# Altium footprint library PCB1.PcbLib: 15 footprints
Each footprint in its own frame and in the unit in brackets; x right, y up, seen from the top. Pads: shape width x height; smd on the part's side, far side on the other; paste and mask are expansions set on the pad; w line width, h text height; cw(c..) or ccw(c..) is an arc to the next point about the centre after c.
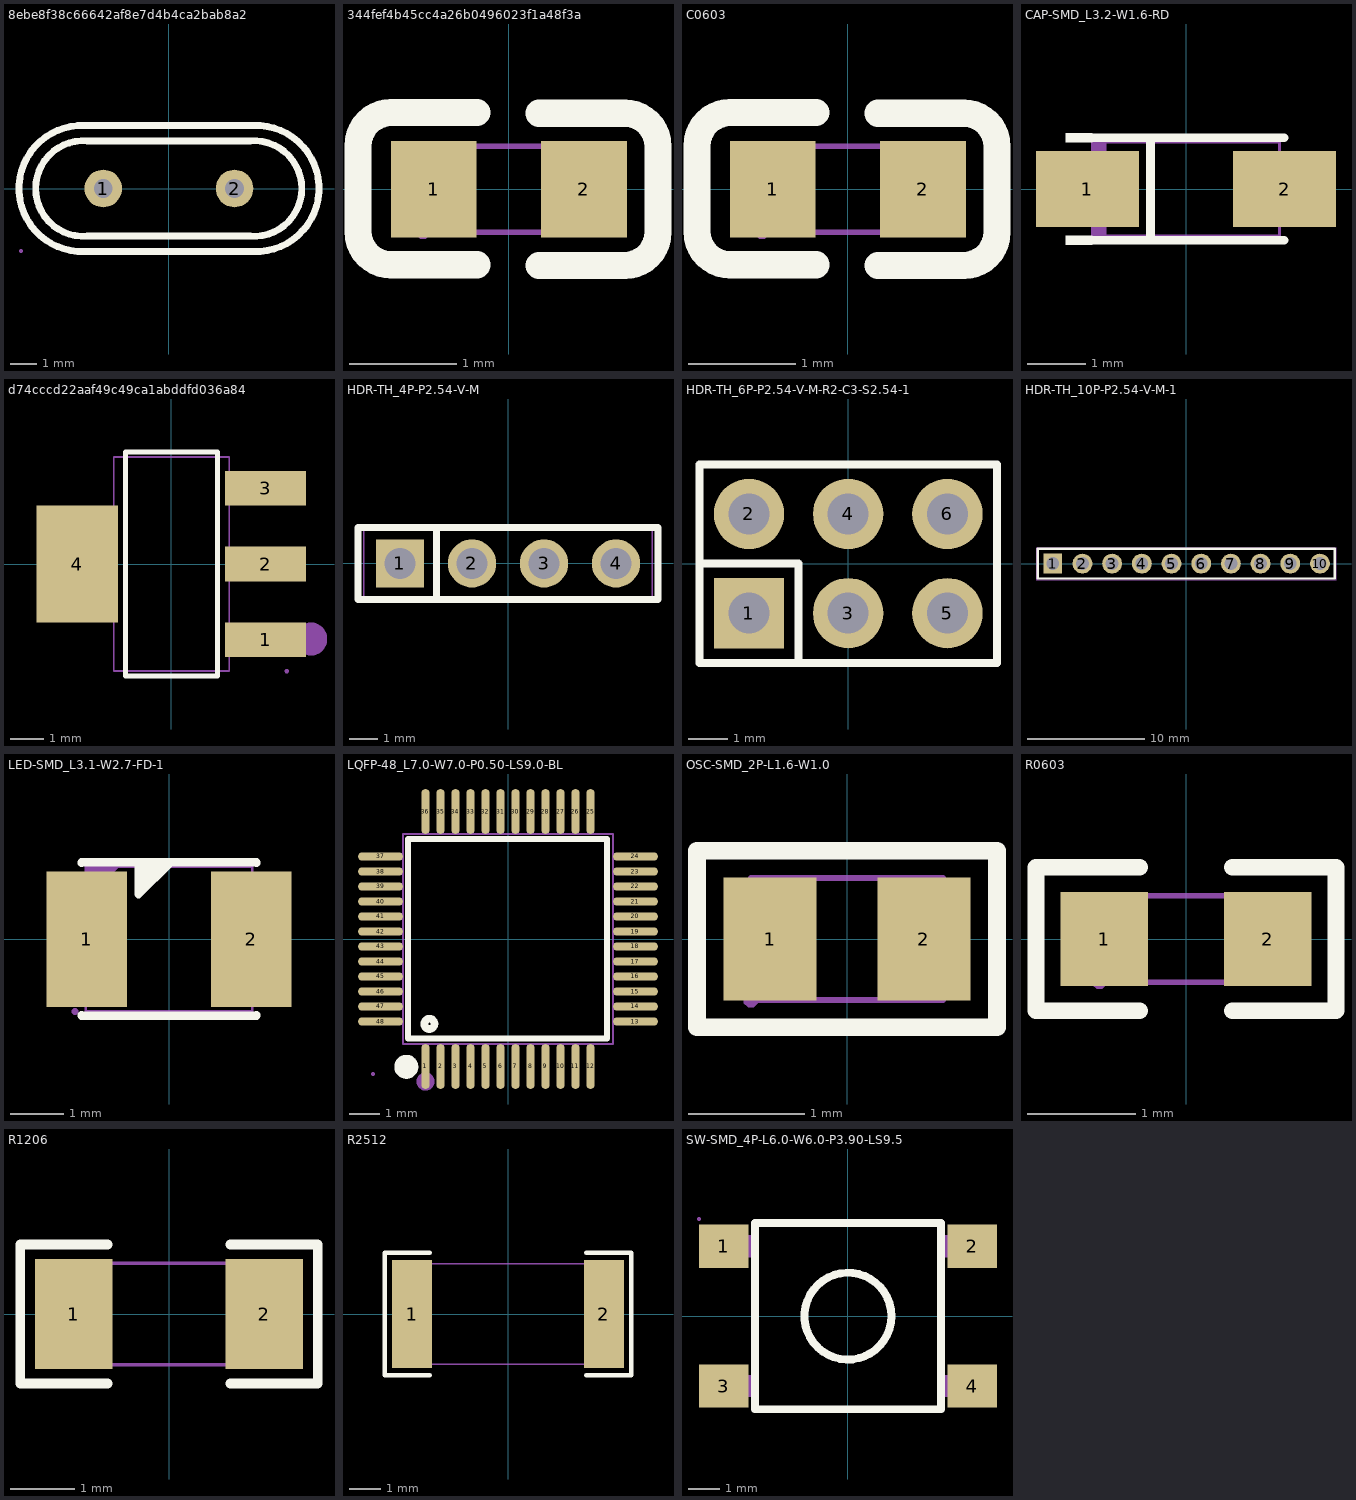
[diagram p0: the footprints below, top view; thin cyan lines are the x and y axes]

## 8ebe8f38c66642af8e7d4b4ca2bab8a2 [mm]
pads (2):
  round 1.4 hole 0.7 mask+0.051: 1(-2.45,0) 2(2.45,0)
Top Overlay:
  lines w0.254: -3.149,-2.351 cw(c-3.241,0) -3.149,2.35 3.15,2.35 cw(c3.248,0.001) 3.15,-2.35 -3.149,-2.35 ; -3.048,-1.779 cw(c-3.188,0) -3.048,1.778 3.048,1.778 cw(c3.176,0) 3.048,-1.779 ; -3.048,-1.778 3.048,-1.778
Mechanical 15:
  region: -5.52,-2.27 -5.545,-2.27 -5.58,-2.305 -5.58,-2.355 -5.545,-2.39 -5.52,-2.39 -5.495,-2.39 -5.46,-2.355 -5.46,-2.305 -5.495,-2.27 -5.52,-2.27
  region: -2.45,0.225 -2.495,0.225 -2.577,0.191 -2.641,0.127 -2.675,0.045 -2.675,-0.045 -2.641,-0.127 -2.577,-0.191 -2.495,-0.225 -2.45,-0.225 -2.405,-0.225 -2.322,-0.191 -2.259,-0.127 -2.225,-0.045 -2.225,0.045 -2.259,0.127 -2.322,0.191 -2.405,0.225 -2.45,0.225
  region: 2.45,0.225 2.405,0.225 2.322,0.191 2.259,0.127 2.225,0.045 2.225,-0.045 2.259,-0.127 2.322,-0.191 2.405,-0.225 2.45,-0.225 2.495,-0.225 2.577,-0.191 2.641,-0.127 2.675,-0.045 2.675,0.045 2.641,0.127 2.577,0.191 2.495,0.225 2.45,0.225
  lines w0.051: -5.52,0 cw(c-3.19,0) -3.19,2.33 3.18,2.33 3.2,2.33 cw(c3.2,0) 5.53,0 cw(c3.2,0) 3.2,-2.33 -3.12,-2.33 -3.19,-2.33 cw(c-3.19,0) -5.52,0

## 344fef4b45cc4a26b0496023f1a48f3a [mm]
pads (2):
  rect 0.8x0.9 smd mask+0.051: 1(-0.7,0) 2(0.7,0)
Top Overlay:
  lines w0.254: -0.296,-0.704 -1.096,-0.704 cw(c-1.096,-0.394) -1.406,-0.394 -1.405,0.406 cw(c-1.096,0.406) -1.096,0.715 -0.296,0.715 ; 0.28,-0.71 1.08,-0.71 ccw(c1.08,-0.4) 1.39,-0.4 1.39,0.4 ccw(c1.08,0.4) 1.08,0.71 0.28,0.71
Mechanical 15:
  region: -0.86,-0.4 -0.86,-0.425 -0.825,-0.46 -0.775,-0.46 -0.74,-0.425 -0.74,-0.4 -0.74,-0.375 -0.775,-0.34 -0.825,-0.34 -0.86,-0.375 -0.86,-0.4
  region: -0.8,-0.4 -0.8,0.4 -0.5,0.4 -0.5,-0.4
  region: 0.8,-0.4 0.8,0.4 0.5,0.4 0.5,-0.4
  lines w0.051: -0.8,-0.4 -0.8,0.4 0.8,0.4 0.8,-0.4 -0.8,-0.4

## C0603 [mm]
pads (2):
  rect 0.8x0.9 smd mask+0.051: 1(-0.7,0) 2(0.7,0)
Top Overlay:
  lines w0.254: -0.296,-0.704 -1.096,-0.704 cw(c-1.096,-0.394) -1.406,-0.394 -1.405,0.406 cw(c-1.096,0.406) -1.096,0.715 -0.296,0.715 ; 0.28,-0.71 1.08,-0.71 ccw(c1.08,-0.4) 1.39,-0.4 1.39,0.4 ccw(c1.08,0.4) 1.08,0.71 0.28,0.71
Mechanical 15:
  region: -0.74,-0.4 -0.74,-0.375 -0.775,-0.34 -0.825,-0.34 -0.86,-0.375 -0.86,-0.4 -0.86,-0.425 -0.825,-0.46 -0.775,-0.46 -0.74,-0.425 -0.74,-0.4
  region: -0.8,-0.4 -0.8,0.4 -0.5,0.4 -0.5,-0.4
  region: 0.8,-0.4 0.8,0.4 0.5,0.4 0.5,-0.4
  lines w0.051: -0.8,-0.4 -0.8,0.4 0.8,0.4 0.8,-0.4 -0.8,-0.4

## CAP-SMD_L3.2-W1.6-RD [mm]
pads (2):
  rect 1.758x1.296 smd mask+0.051: 1(-1.686,0) 2(1.686,0)
Top Overlay:
  region: -1.6,-0.952 -1.6,-0.8 -2.057,-0.8 -2.057,-0.952
  region: -1.6,0.952 -1.6,0.8 -2.057,0.8 -2.057,0.952
  lines w0.152: -1.676,-0.876 1.676,-0.876 ; -1.676,0.876 1.676,0.876 ; -0.604,-0.876 -0.604,0.876
Mechanical 6:
  region: 1.48,0.06 1.48,-0.06 1,-0.06 1,0.06
  region: -1.48,0.06 -1.48,-0.06 -1,-0.06 -1,0.06
  region: -1.3,0.4 -1.3,-0.4 -1.18,-0.4 -1.18,0.4
  region: -1.6,0.8 -1.6,0.4 -1.36,0.4 -1.36,0.8
  region: -1.6,-0.8 -1.6,-0.4 -1.36,-0.4 -1.36,-0.8
Mechanical 15:
  region: -1.651,-0.949 -1.626,-0.949 -1.591,-0.914 -1.591,-0.864 -1.626,-0.829 -1.651,-0.829 -1.676,-0.829 -1.711,-0.864 -1.711,-0.914 -1.676,-0.949 -1.651,-0.949
  region: 1.83,0.6 1.83,-0.6 0.98,-0.6 0.98,0.6
  region: -1.83,0.6 -1.83,-0.6 -0.98,-0.6 -0.98,0.6
  lines w0.051: -1.6,-0.8 1.6,-0.8 1.6,0.8 -1.6,0.8 -1.6,-0.8

## d74cccd22aaf49c49ca1abddfd036a84 [mm]
pads (4):
  rect 2.465x1.05 smd mask+0.051: 1(2.857,-2.3) 2(2.857,0) 3(2.857,2.3)
  rect 2.465x3.54 smd mask+0.051: 4(-2.857,0)
Top Overlay:
  lines w0.152: -1.396,-3.401 1.396,-3.401 1.396,3.401 -1.396,3.401 -1.396,-3.401
Mechanical 6:
  circle w0.5: c4.229,-2.277 r0.25
Mechanical 15:
  region: -3.5,-1.5 -3.5,1.5 -2.2,1.5 -2.2,-1.5
  region: -2.21,-1.5 -2.21,1.5 -1.74,1.5 -1.74,-1.5
  region: 2.85,-2.65 2.85,-1.95 3.5,-1.95 3.5,-2.65
  region: 1.74,-2.65 1.74,-1.95 2.86,-1.95 2.86,-2.65
  region: 2.85,-0.35 2.85,0.35 3.5,0.35 3.5,-0.35
  region: 1.74,-0.35 1.74,0.35 2.86,0.35 2.86,-0.35
  region: 2.85,1.95 2.85,2.65 3.5,2.65 3.5,1.95
  region: 1.74,1.95 1.74,2.65 2.86,2.65 2.86,1.95
  region: 3.5,-3.19 3.475,-3.19 3.44,-3.225 3.44,-3.275 3.475,-3.31 3.5,-3.31 3.525,-3.31 3.56,-3.275 3.56,-3.225 3.525,-3.19 3.5,-3.19
  lines w0.051: -1.75,-3.25 -1.75,3.25 1.75,3.25 1.75,-3.25 -1.75,-3.25

## HDR-TH_4P-P2.54-V-M [mm]
pads (4):
  rect 1.699x1.699 hole 1.1 mask+0.051: 1(-3.81,0)
  round 1.699 hole 1.1 mask+0.051: 2(-1.27,0) 3(1.27,0) 4(3.81,0)
Top Overlay:
  lines w0.254: -2.517,-1.27 -2.517,1.27 ; -5.291,-1.27 5.291,-1.27 5.291,1.27 -5.291,1.27 -5.291,-1.27
Mechanical 15:
  region: -5.019,-1.25 -5.019,-1.224 -5.055,-1.189 -5.105,-1.189 -5.141,-1.224 -5.141,-1.25 -5.141,-1.275 -5.105,-1.311 -5.055,-1.311 -5.019,-1.275 -5.019,-1.25
  region: -4.13,0.32 -3.49,0.32 -3.49,-0.32 -4.13,-0.32
  region: -1.59,0.32 -0.95,0.32 -0.95,-0.32 -1.59,-0.32
  region: 0.95,0.32 1.59,0.32 1.59,-0.32 0.95,-0.32
  region: 3.49,0.32 4.13,0.32 4.13,-0.32 3.49,-0.32
  lines w0.051: -5.08,-1.25 -5.08,1.25 5.08,1.25 5.08,-1.25 -5.08,-1.25

## HDR-TH_6P-P2.54-V-M-R2-C3-S2.54-1 [mm]
pads (6):
  rect 1.801x1.801 hole 1.049 mask+0.051: 1(-2.54,-1.27)
  round 1.801 hole 1.049 mask+0.051: 2(-2.54,1.27) 3(0,-1.27) 4(0,1.27) 5(2.54,-1.27) 6(2.54,1.27)
Top Overlay:
  lines w0.203: -3.81,0.003 -1.27,0.003 -1.27,-2.54 ; -1.059,-2.54 3.81,-2.54 ; 3.81,-2.54 3.81,2.54 -3.81,2.54 -3.81,-2.54 3.81,-2.54
Mechanical 15:
  region: -3.749,-2.499 -3.749,-2.474 -3.785,-2.438 -3.835,-2.438 -3.871,-2.474 -3.871,-2.499 -3.871,-2.525 -3.835,-2.56 -3.785,-2.56 -3.749,-2.525 -3.749,-2.499
  region: -2.86,1.59 -2.22,1.59 -2.22,0.95 -2.86,0.95
  region: -2.86,-0.95 -2.22,-0.95 -2.22,-1.59 -2.86,-1.59
  region: -0.32,-0.95 0.32,-0.95 0.32,-1.59 -0.32,-1.59
  region: -0.32,1.59 0.32,1.59 0.32,0.95 -0.32,0.95
  region: 2.22,1.59 2.86,1.59 2.86,0.95 2.22,0.95
  region: 2.22,-0.95 2.86,-0.95 2.86,-1.59 2.22,-1.59
  lines w0.051: -3.81,-2.499 -3.81,2.499 3.81,2.499 3.81,-2.499 -3.81,-2.499

## HDR-TH_10P-P2.54-V-M-1 [mil]
pads (10):
  rect 62x66.9 hole 43.3 mask+2: 1(-450,0)
  round 66.9 hole 43.3 mask+2: 2(-350,0) 3(-250,0) 4(-150,0) 5(-50,0) 6(50,0) 7(150,0) 8(250,0) 9(350,0) 10(450,0)
Top Overlay:
  lines w8: -500,-50 500,-50 500,50 -425,50 -500,50 -500,-50
Mechanical 15:
  drawing of 15 lines, arcs and shapes, not listed

## LED-SMD_L3.1-W2.7-FD-1 [mm]
pads (2):
  rect 1.501x2.52 smd mask+0.051: 1(-1.529,0) 2(1.529,0)
Top Overlay:
  region: -0.16,1.4 -0.033,1.369 -0.541,0.861 -0.566,1.374 -0.541,1.4
  lines w0.152: -1.626,-1.412 -1.626,-1.425 1.626,-1.425 1.626,-1.412 ; -1.626,1.412 -1.626,1.427 1.626,1.427 1.626,1.412 ; -0.566,1.369 -0.566,0.833 0,1.397
Mechanical 6:
  region: 1.079,-0.127 1.968,-0.127 1.968,0.127 0.826,0.127 0.826,0 0.826,-0.127
  region: -1.397,-0.318 -1.397,0.572 -1.651,0.572 -1.651,-0.572 -1.524,-0.572 -1.397,-0.572
  region: -1.841,-0.127 -0.953,-0.127 -0.953,0.127 -2.095,0.127 -2.095,0 -2.095,-0.127
  region: -1.549,1.351 -1.549,0.716 -0.914,1.351
Mechanical 15:
  region: 1.75,1.1 1.75,-1.1 0.95,-1.1 0.95,1.1
  region: -1.75,1.1 -1.75,-1.1 -0.95,-1.1 -0.95,1.1
  region: -1.689,-1.349 -1.689,-1.323 -1.725,-1.288 -1.775,-1.288 -1.811,-1.323 -1.811,-1.349 -1.811,-1.374 -1.775,-1.41 -1.725,-1.41 -1.689,-1.374 -1.689,-1.349
  lines w0.051: -1.549,-1.349 -1.549,1.351 1.549,1.351 1.549,-1.349 -1.549,-1.349

## LQFP-48_L7.0-W7.0-P0.50-LS9.0-BL [mm]
pads (48):
  oval 0.27x1.5 smd mask+0.05: 1(-2.75,-4.25) 2(-2.25,-4.25) 3(-1.75,-4.25) 4(-1.25,-4.25) 5(-0.75,-4.25) 6(-0.25,-4.25) 7(0.25,-4.25) 8(0.75,-4.25) 9(1.25,-4.25) 10(1.75,-4.25) 11(2.25,-4.25) 12(2.75,-4.25) 25(2.75,4.25) 26(2.25,4.25) 27(1.75,4.25) 28(1.25,4.25) 29(0.75,4.25) 30(0.25,4.25) 31(-0.25,4.25) 32(-0.75,4.25) 33(-1.25,4.25) 34(-1.75,4.25) 35(-2.25,4.25) 36(-2.75,4.25)
  oval 1.5x0.27 smd mask+0.05: 13(4.25,-2.75) 14(4.25,-2.25) 15(4.25,-1.75) 16(4.25,-1.25) 17(4.25,-0.75) 18(4.25,-0.25) 19(4.25,0.25) 20(4.25,0.75) 21(4.25,1.25) 22(4.25,1.75) 23(4.25,2.25) 24(4.25,2.75) 37(-4.25,2.75) 38(-4.25,2.25) 39(-4.25,1.75) 40(-4.25,1.25) 41(-4.25,0.75) 42(-4.25,0.25) 43(-4.25,-0.25) 44(-4.25,-0.75) 45(-4.25,-1.25) 46(-4.25,-1.75) 47(-4.25,-2.25) 48(-4.25,-2.75)
Top Overlay:
  circle w0.254: c-2.62,-2.83 r0.17
  lines w0.2: -2.896,3.34 3.302,3.34 3.302,-3.315 -3.327,-3.315 -3.327,3.34 -2.565,3.34
  lines w0.4: -3.39,-4.06 ccw(c-3.389,-4.26) -3.387,-4.06
Mechanical 6:
  circle w0.3: c-2.75,-4.75 r0.15
Mechanical 15:
  drawing of 101 lines, arcs and shapes, not listed

## OSC-SMD_2P-L1.6-W1.0 [mm]
pads (2):
  rect 0.8x1.06 smd mask+0.051: 1(-0.66,0) 2(0.66,0)
Top Overlay:
  lines w0.152: -1.289,-0.759 1.289,-0.759 1.289,0.759 -1.289,0.759 -1.289,-0.759
Mechanical 15:
  region: 0.36,-0.43 0.36,0.43 0.76,0.43 0.76,-0.43
  region: -0.36,-0.43 -0.36,0.43 -0.76,0.43 -0.76,-0.43
  region: -0.765,-0.525 -0.765,-0.5 -0.8,-0.465 -0.85,-0.465 -0.885,-0.5 -0.885,-0.525 -0.885,-0.55 -0.85,-0.585 -0.8,-0.585 -0.765,-0.55 -0.765,-0.525
  lines w0.051: -0.825,-0.525 0.825,-0.525 0.825,0.525 -0.825,0.525 -0.825,-0.525

## R0603 [mm]
pads (2):
  rect 0.806x0.864 smd mask+0.051: 1(-0.753,0) 2(0.753,0)
Top Overlay:
  lines w0.152: -0.426,-0.661 -1.385,-0.661 -1.385,0.661 -0.426,0.661 ; 0.426,-0.661 1.385,-0.661 1.385,0.661 0.426,0.661
Top Paste:
  region: -0.355,0.4 -0.355,0.172 -0.735,0.172 -0.735,-0.158 -0.355,-0.158 -0.355,-0.4 -0.405,-0.45 -1.195,-0.45 -1.245,-0.4 -1.245,0.4 -1.195,0.45 -0.405,0.45
  region: 1.195,0.45 0.395,0.45 0.345,0.4 0.345,0.172 0.715,0.172 0.715,-0.158 0.345,-0.158 0.345,-0.4 0.395,-0.45 1.195,-0.45 1.245,-0.4 1.245,0.4
Mechanical 15:
  region: 0.8,-0.4 0.8,0.4 0.5,0.4 0.5,-0.4
  region: -0.8,-0.4 -0.8,0.4 -0.5,0.4 -0.5,-0.4
  region: -0.74,-0.4 -0.74,-0.375 -0.775,-0.34 -0.825,-0.34 -0.86,-0.375 -0.86,-0.4 -0.86,-0.425 -0.825,-0.46 -0.775,-0.46 -0.74,-0.425 -0.74,-0.4
  lines w0.051: -0.8,-0.4 0.8,-0.4 0.8,0.4 -0.8,0.4 -0.8,-0.4

## R1206 [mm]
pads (2):
  rect 1.208x1.701 smd mask+0.051: 1(-1.479,0) 2(1.479,0)
Top Overlay:
  lines w0.152: -0.951,-1.079 -2.311,-1.079 -2.311,1.079 -0.951,1.079 ; 0.951,-1.079 2.311,-1.079 2.311,1.079 0.951,1.079
Top Paste:
  region: -0.875,-0.75 -0.875,-0.389 -0.975,-0.289 -1.186,-0.289 -1.286,-0.189 -1.286,0.189 -1.186,0.289 -0.975,0.289 -0.875,0.389 -0.875,0.75 -0.975,0.85 -1.983,0.85 -2.083,0.75 -2.083,-0.75 -1.983,-0.85 -0.975,-0.85
  region: 0.875,-0.75 0.875,-0.389 0.975,-0.289 1.186,-0.289 1.286,-0.189 1.286,0.189 1.186,0.289 0.975,0.289 0.875,0.389 0.875,0.75 0.975,0.85 1.983,0.85 2.083,0.75 2.083,-0.75 1.983,-0.85 0.975,-0.85
Mechanical 15:
  region: 1.55,-0.788 1.55,0.788 1.1,0.788 1.1,-0.788
  region: -1.55,-0.788 -1.55,0.788 -1.1,0.788 -1.1,-0.788
  region: -1.49,-0.787 -1.49,-0.763 -1.525,-0.727 -1.575,-0.727 -1.61,-0.763 -1.61,-0.787 -1.61,-0.812 -1.575,-0.847 -1.525,-0.847 -1.49,-0.812 -1.49,-0.787
  lines w0.051: -1.55,-0.788 1.55,-0.788 1.55,0.788 -1.55,0.788 -1.55,-0.788

## R2512 [mm]
pads (2):
  rect 1.283x3.456 smd mask+0.051: 1(-3.066,0) 2(3.066,0)
Top Overlay:
  lines w0.152: -2.501,-1.957 -3.936,-1.957 -3.936,1.957 -2.501,1.957 ; 2.501,-1.957 3.936,-1.957 3.936,1.957 2.501,1.957
Top Paste:
  region: 2.425,-1.628 2.425,-0.688 2.525,-0.588 2.761,-0.588 2.861,-0.488 2.861,0.488 2.761,0.588 2.525,0.588 2.425,0.688 2.425,1.628 2.525,1.728 3.608,1.728 3.708,1.628 3.708,-1.628 3.608,-1.728 2.525,-1.728
  region: -2.425,-1.628 -2.425,-0.688 -2.525,-0.588 -2.761,-0.588 -2.861,-0.488 -2.861,0.488 -2.761,0.588 -2.525,0.588 -2.425,0.688 -2.425,1.628 -2.525,1.728 -3.608,1.728 -3.708,1.628 -3.708,-1.628 -3.608,-1.728 -2.525,-1.728
Mechanical 15:
  region: -3.115,-1.6 -3.115,-1.575 -3.15,-1.54 -3.2,-1.54 -3.235,-1.575 -3.235,-1.6 -3.235,-1.625 -3.2,-1.66 -3.15,-1.66 -3.115,-1.625 -3.115,-1.6
  region: -3.15,-1.6 -3.15,1.6 -2.55,1.6 -2.55,-1.6
  region: 2.55,-1.6 2.55,1.6 3.15,1.6 3.15,-1.6
  lines w0.051: -3.15,-1.6 -3.15,1.6 3.15,1.6 3.15,-1.6 -3.15,-1.6

## SW-SMD_4P-L6.0-W6.0-P3.90-LS9.5 [mil]
pads (4):
  rect 63x55.1 smd mask+2: 1(-157.5,88.6) 2(157.5,88.6) 3(-157.5,-88.6) 4(157.5,-88.6)
Top Overlay:
  circle w10: c0,0 r55.1
  lines w10: -118.1,-118.1 118.1,-118.1 118.1,118.1 -118.1,118.1 -118.1,-118.1
Mechanical 15:
  region: -186.6,123.1 -186.6,124.09 -188.01,125.5 -189.99,125.5 -191.4,124.09 -191.4,123.1 -191.4,122.11 -189.99,120.7 -188.01,120.7 -186.6,122.11 -186.6,123.1
  region: -146.1,74.8 -146.1,102.4 -117.7,102.4 -117.7,74.8
  region: -177.2,74.8 -177.2,102.4 -145.7,102.4 -145.7,74.8
  region: -146.1,-102.4 -146.1,-74.8 -117.7,-74.8 -117.7,-102.4
  region: -177.2,-102.4 -177.2,-74.8 -145.7,-74.8 -145.7,-102.4
  region: 117.7,-102.4 117.7,-74.8 146.1,-74.8 146.1,-102.4
  region: 145.7,-102.4 145.7,-74.8 177.2,-74.8 177.2,-102.4
  region: 117.7,74.8 117.7,102.4 146.1,102.4 146.1,74.8
  region: 145.7,74.8 145.7,102.4 177.2,102.4 177.2,74.8
  lines w2: -118.1,-118.1 -118.1,118.1 118.1,118.1 118.1,-118.1 -118.1,-118.1